# Altium footprint library CHXXX.pcblib: 142 footprints (part 8 of 9)
Each footprint in its own frame and in the unit in brackets; x right, y up, seen from the top. Pads: shape width x height; smd on the part's side, far side on the other; paste and mask are expansions set on the pad; w line width, h text height; cw(c..) or ccw(c..) is an arc to the next point about the centre after c.
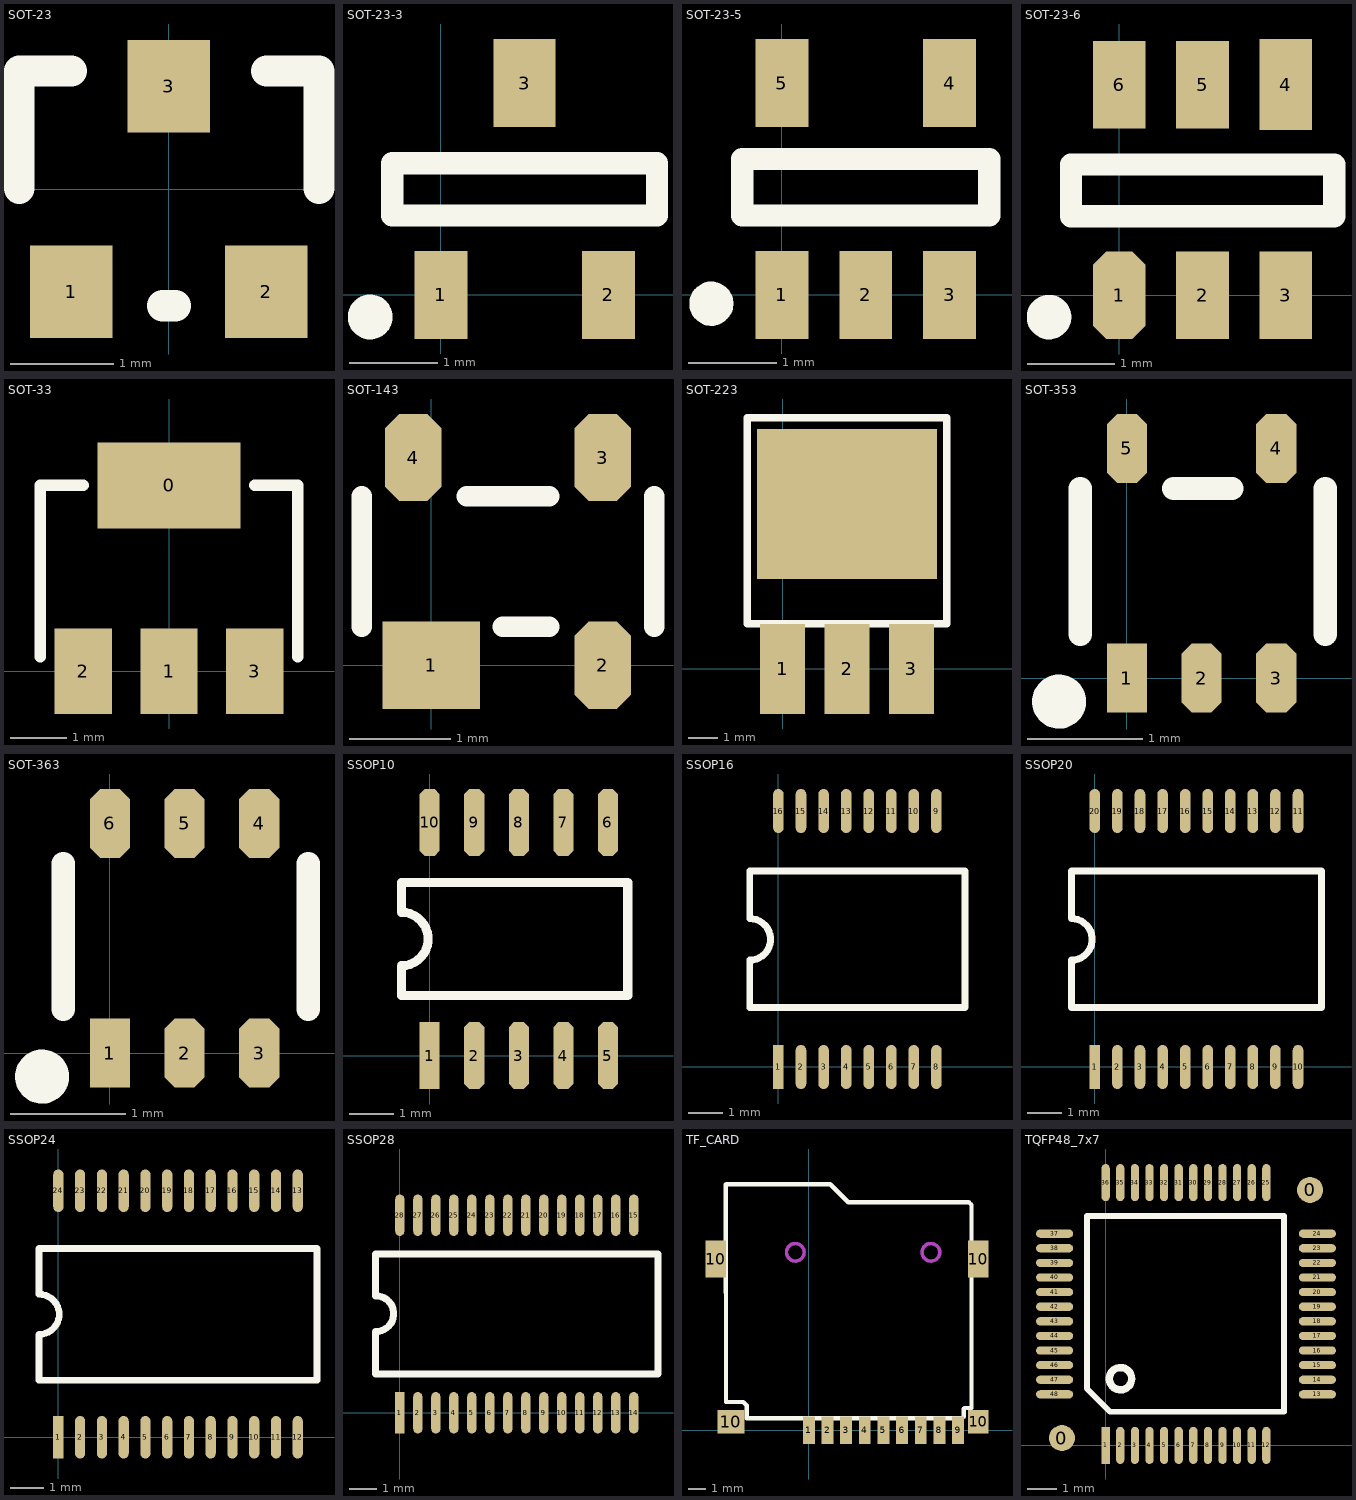
[diagram p7: the footprints below, top view; thin cyan lines are the x and y axes]

## SOT-23 [mm]
height 1.3
pads (3):
  rect 0.8x0.9 smd: 1(-0.95,-1) 2(0.95,-1) 3(0,1)
TopOverlay:
  lines w0.305: -1.458,0.006 -1.458,1.149 -0.95,1.149 ; -0.061,-1.137 0.066,-1.137 ; 0.955,1.149 1.463,1.149 1.463,0.006

## SOT-23-3 [mm] "SOT-23-3"
pads (3):
  rect 0.6x1 smd: 1(0,0) 2(1.9,0)
  rect 0.7x1 smd: 3(0.95,2.4)
TopOverlay:
  circle w0.254: c-0.8,-0.25 r0.127
  lines w0.254: -0.55,0.9 2.45,0.9 2.45,1.49 -0.55,1.49 -0.55,0.9

## SOT-23-5 [mm]
pads (5):
  rect 0.6x1 smd: 1(0,0) 2(0.95,0) 3(1.9,0) 4(1.9,2.4) 5(0,2.4)
TopOverlay:
  circle w0.25: c-0.8,-0.1 r0.125
  lines w0.254: -0.45,0.9 2.35,0.9 2.35,1.54 -0.45,1.54 -0.45,0.9

## SOT-23-6 [mm] "SOT-23-6"
pads (6):
  oct 0.6x1 smd: 1(0,0)
  rect 0.6x1 smd: 2(0.95,0) 3(1.9,0) 5(0.95,2.4) 6(0,2.4)
  rect 0.6x1.04 smd: 4(1.9,2.4)
TopOverlay:
  circle w0.254: c-0.8,-0.25 r0.127
  lines w0.254: -0.55,0.9 2.45,0.9 2.45,1.49 -0.55,1.49 -0.55,0.9

## SOT-33 [mil]
pads (4):
  rect 100x60 smd: 0(0,130)
  rect 40x60 smd: 1(0,0) 2(-60,0) 3(60,0)
TopOverlay:
  lines w8: -90,10 -90,130 -60,130 ; 60,130 90,130 90,10

## SOT-143 [mil]
pads (4):
  rect 38x34 smd: 1(0,0)
  oct 22x34 smd: 2(67,0) 3(67,81) 4(-7,81)
TopOverlay:
  lines w8: -27,15 -27,66 ; 14,66 46,66 ; 28,15 46,15 ; 87,15 87,66

## SOT-223 [mil]
pads (4):
  rect 60x120 smd: 1(0,0) 2(86,0) 3(172,0)
  rect 240x200 smd: ""(86,220)
TopOverlay:
  lines w10: -47,60 -47,335 219,335 219,60 -47,60

## SOT-353 [mm]
pads (5):
  rect 0.35x0.6 smd mask+0.051: 1(0,0)
  oct 0.35x0.6 smd mask+0.051: 2(0.65,0) 3(1.3,0) 4(1.3,2) 5(0,2)
TopOverlay:
  circle w0.254: c-0.59,-0.205 r0.108
  lines w0.203: -0.406,0.381 -0.406,1.651 ; 0.406,1.651 0.914,1.651 ; 1.727,0.381 1.727,1.651

## SOT-363 [mm]
pads (6):
  rect 0.35x0.6 smd mask+0.051: 1(0,0)
  oct 0.35x0.6 smd mask+0.051: 2(0.65,0) 3(1.3,0) 4(1.3,2) 5(0.65,2) 6(0,2)
TopOverlay:
  circle w0.254: c-0.59,-0.205 r0.108
  lines w0.203: -0.406,0.381 -0.406,1.651 ; 1.727,0.381 1.727,1.651

## SSOP10 [mm]
pads (10):
  rect 0.45x1.5 smd: 1(0,0)
  oct 0.45x1.5 smd: 2(1,0) 3(2,0) 4(3,0) 5(4,0) 6(4,5.232) 7(3,5.232) 8(2,5.232) 9(1,5.232) 10(0,5.232)
TopOverlay:
  lines w0.203: -0.635,1.346 -0.635,2.016 ccw(c-0.635,2.616) -0.635,3.216 -0.635,3.886 4.445,3.886 4.445,1.346 -0.635,1.346

## SSOP16 [mil]
pads (16):
  rect 12x50 smd: 1(0,0)
  oval 12x50 smd: 2(25.6,0) 3(51.2,0) 4(76.8,0) 5(102.4,0) 6(128,0) 7(153.5,0) 8(179.1,0) 9(179.1,290) 10(153.5,290) 11(128,290) 12(102.4,290) 13(76.8,290) 14(51.2,290) 15(25.6,290) 16(0,290)
TopOverlay:
  lines w7.87: -32.48,67.24 211.61,67.24 211.61,221.97 -32.48,221.97 -32.48,168.23 cw(c-32.48,144.61) -32.48,120.98 -32.48,67.24

## SSOP20 [mil]
pads (20):
  rect 12x50 smd: 1(0,0)
  oval 12x50 smd: 2(25.6,0) 3(51.2,0) 4(76.8,0) 5(102.4,0) 6(128,0) 7(153.5,0) 8(179.1,0) 9(204.7,0) 10(230.3,0) 11(230.3,290) 12(204.7,290) 13(179.1,290) 14(153.5,290) 15(128,290) 16(102.4,290) 17(76.8,290) 18(51.2,290) 19(25.6,290) 20(0,290)
TopOverlay:
  lines w7.87: -26.57,67.24 -26.57,120.98 ccw(c-26.57,144.61) -26.57,168.23 -26.57,221.97 256.89,221.97 256.89,67.24 -26.57,67.24

## SSOP24 [mil]
pads (24):
  rect 12x50 smd: 1(0,0)
  oval 12x50 smd: 2(25.6,0) 3(51.2,0) 4(76.8,0) 5(102.4,0) 6(128,0) 7(153.5,0) 8(179.1,0) 9(204.7,0) 10(230.3,0) 11(256,0) 12(281.5,0) 13(281.5,290) 14(256,290) 15(230.3,290) 16(204.7,290) 17(179.1,290) 18(153.5,290) 19(128,290) 20(102.4,290) 21(76.8,290) 22(51.2,290) 23(25.6,290) 24(0,290)
TopOverlay:
  lines w7.87: -22.64,67.24 -22.64,120.98 ccw(c-22.64,144.61) -22.64,168.23 -22.64,221.97 304.13,221.97 304.13,67.24 -22.64,67.24

## SSOP28 [mil]
pads (28):
  rect 13x59.06 smd: 1(0,0)
  oval 13x59.06 smd: 2(25.59,0) 3(51.18,0) 4(76.77,0) 5(102.36,0) 6(127.95,0) 7(153.55,0) 8(179.14,0) 9(204.73,0) 10(230.32,0) 11(255.91,0) 12(281.5,0) 13(307.09,0) 14(332.68,0) 15(332.68,280.94) 16(307.09,280.94) 17(281.5,280.94) 18(255.91,280.94) 19(230.32,280.94) 20(204.73,280.94) 21(179.14,280.94) 22(153.55,280.94) 23(127.95,280.94) 24(102.36,280.94) 25(76.77,280.94) 26(51.18,280.94) 27(25.59,280.94) 28(0,280.94)
TopOverlay:
  lines w10: -34.45,166.27 -34.45,225.47 367.13,225.47 367.13,55.47 -34.45,55.47 -34.45,115.47 ccw(c-34.05,140.87) -34.35,166.27

## TF_CARD [mm]
pads (13):
  rect 0.7x1.6 smd: 1(0,0) 2(1.1,0) 3(2.2,0) 4(3.3,0) 5(4.4,0) 6(5.5,0) 7(6.6,0) 8(7.7,0) 9(8.8,0)
  rect 1.2x2.2 smd: 10(-5.5,10.1) 10(10,10.1)
  rect 1.6x1.4 smd: 10(-4.6,0.5)
  rect 1.2x1.4 smd: 10(10,0.5)
TopOverlay:
  lines w0.254: -4.9,14.5 -4.884,1.667 -3.868,1.667 -3.665,1.464 -3.665,0.702 9.035,0.702 9.136,0.804 9.136,1.261 9.187,1.312 9.594,1.312 ; -4.88,14.52 1.262,14.52 2.329,13.453 9.441,13.453 9.543,13.351 ; 9.594,1.313 9.594,13.302
KeepOutLayer:
  circle w0.2: c7.2,10.5 r0.52
  circle w0.2: c-0.8,10.5 r0.52
Mechanical1:
  circle w0.2: c7.2,10.5 r0.52
  circle w0.2: c-0.8,10.5 r0.52

## TQFP48_7x7 [mm]
pads (50):
  round 0.889 smd: 0(-1.496,0.254) 0(6.996,8.746)
  rect 0.28x1.27 smd mask+0.051: 1(0,0)
  oval 0.28x1.27 smd mask+0.051: 2(0.5,0) 3(1,0) 4(1.5,0) 5(2,0) 6(2.5,0) 7(3,0) 8(3.5,0) 9(4,0) 10(4.5,0) 11(5,0) 12(5.5,0) 25(5.5,9) 26(5,9) 27(4.5,9) 28(4,9) 29(3.5,9) 30(3,9) 31(2.5,9) 32(2,9) 33(1.5,9) 34(1,9) 35(0.5,9) 36(0,9)
  oval 1.27x0.28 smd mask+0.051: 13(7.25,1.75) 14(7.25,2.25) 15(7.25,2.75) 16(7.25,3.25) 17(7.25,3.75) 18(7.25,4.25) 19(7.25,4.75) 20(7.25,5.25) 21(7.25,5.75) 22(7.25,6.25) 23(7.25,6.75) 24(7.25,7.25) 37(-1.75,7.25) 38(-1.75,6.75) 39(-1.75,6.25) 40(-1.75,5.75) 41(-1.75,5.25) 42(-1.75,4.75) 43(-1.75,4.25) 44(-1.75,3.75) 45(-1.75,3.25) 46(-1.75,2.75) 47(-1.75,2.25) 48(-1.75,1.75)
TopOverlay:
  circle w0.254: c0.508,2.286 r0.381
  lines w0.2: -0.646,1.947 0.148,1.154
  lines w0.203: -0.646,1.947 -0.646,7.859 6.111,7.859 6.111,1.154 0.148,1.154